# Altium footprint library FUSM4632X85.PcbLib: 1 footprints
Each footprint in its own frame and in the unit in brackets; x right, y up, seen from the top. Pads: shape width x height; smd on the part's side, far side on the other; paste and mask are expansions set on the pad; w line width, h text height; cw(c..) or ccw(c..) is an arc to the next point about the centre after c.
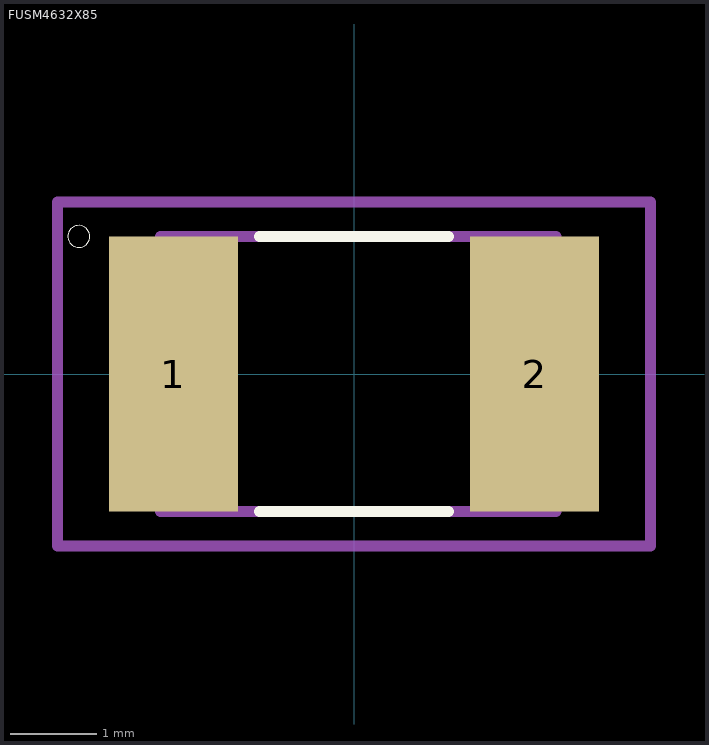
[diagram p0: the footprint, top view; thin cyan lines are the x and y axes]

## FUSM4632X85 [mm]
pads (2):
  rect 1.5x3.2 smd: 1(-2.1,0) 2(2.1,0)
Top Overlay:
  circle w0: c-3.2,1.6 r0.127
  lines w0.127: -1.1,-1.6 1.1,-1.6 ; -1.1,1.6 1.1,1.6
Mechanical 13:
  region: -1.35,-1.6 -2.25,-1.6 -2.25,-0.5 -2.224,-0.499 -2.198,-0.497 -2.172,-0.494 -2.146,-0.489 -2.121,-0.483 -2.095,-0.476 -2.071,-0.467 -2.047,-0.457 -2.023,-0.446 -2,-0.433 -1.978,-0.419 -1.956,-0.405 -1.935,-0.389 -1.915,-0.372 -1.896,-0.354 -1.878,-0.335 -1.861,-0.315 -1.845,-0.294 -1.831,-0.272 -1.817,-0.25 -1.804,-0.227 -1.793,-0.203 -1.783,-0.179 -1.774,-0.155 -1.767,-0.129 -1.761,-0.104 -1.756,-0.078 -1.753,-0.052 -1.751,-0.026 -1.75,0 -1.751,0.026 -1.753,0.052 -1.756,0.078 -1.761,0.104 -1.767,0.129 -1.774,0.155 -1.783,0.179 -1.793,0.203 -1.804,0.227 -1.817,0.25 -1.831,0.272 -1.845,0.294 -1.861,0.315 -1.878,0.335 -1.896,0.354 -1.915,0.372 -1.935,0.389 -1.956,0.405 -1.978,0.419 -2,0.433 -2.023,0.446 -2.047,0.457 -2.071,0.467 -2.095,0.476 -2.121,0.483 -2.146,0.489 -2.172,0.494 -2.198,0.497 -2.224,0.499 -2.25,0.5 -2.25,1.6 -1.35,1.6
  region: 2.35,0.5 2.324,0.499 2.298,0.497 2.272,0.494 2.246,0.489 2.221,0.483 2.195,0.476 2.171,0.467 2.147,0.457 2.123,0.446 2.1,0.433 2.078,0.419 2.056,0.405 2.035,0.389 2.015,0.372 1.996,0.354 1.978,0.335 1.961,0.315 1.945,0.294 1.931,0.272 1.917,0.25 1.904,0.227 1.893,0.203 1.883,0.179 1.874,0.155 1.867,0.129 1.861,0.104 1.856,0.078 1.853,0.052 1.851,0.026 1.85,0 1.851,-0.026 1.853,-0.052 1.856,-0.078 1.861,-0.104 1.867,-0.129 1.874,-0.155 1.883,-0.179 1.893,-0.203 1.904,-0.227 1.917,-0.25 1.931,-0.272 1.945,-0.294 1.961,-0.315 1.978,-0.335 1.996,-0.354 2.015,-0.372 2.035,-0.389 2.056,-0.405 2.078,-0.419 2.1,-0.433 2.123,-0.446 2.147,-0.457 2.171,-0.467 2.195,-0.476 2.221,-0.483 2.246,-0.489 2.272,-0.494 2.298,-0.497 2.324,-0.499 2.35,-0.5 2.35,-1.6 1.35,-1.6 1.35,1.6 2.35,1.6
  lines w0.127: -1.1,-1.6 -2.25,-1.6 -2.25,-0.5 ccw(c-2.25,0) -2.25,0.5 -2.25,1.6 -1.1,1.6 ; 1.1,-1.6 2.35,-1.6 2.35,-0.5 cw(c2.35,0) 2.35,0.5 2.35,1.6 1.1,1.6
Mechanical 15:
  lines w0.127: -3.45,-2 -3.45,2 3.45,2 3.45,-2 -3.45,-2
3D body "step_temp.STEP": height 1.1, standoff 0, extent -2.275,-1.62 2.275,1.62